# Altium footprint library SMD_MOSFET.PcbLib: 6 footprints
Each footprint in its own frame and in the unit in brackets; x right, y up, seen from the top. Pads: shape width x height; smd on the part's side, far side on the other; paste and mask are expansions set on the pad; w line width, h text height; cw(c..) or ccw(c..) is an arc to the next point about the centre after c.
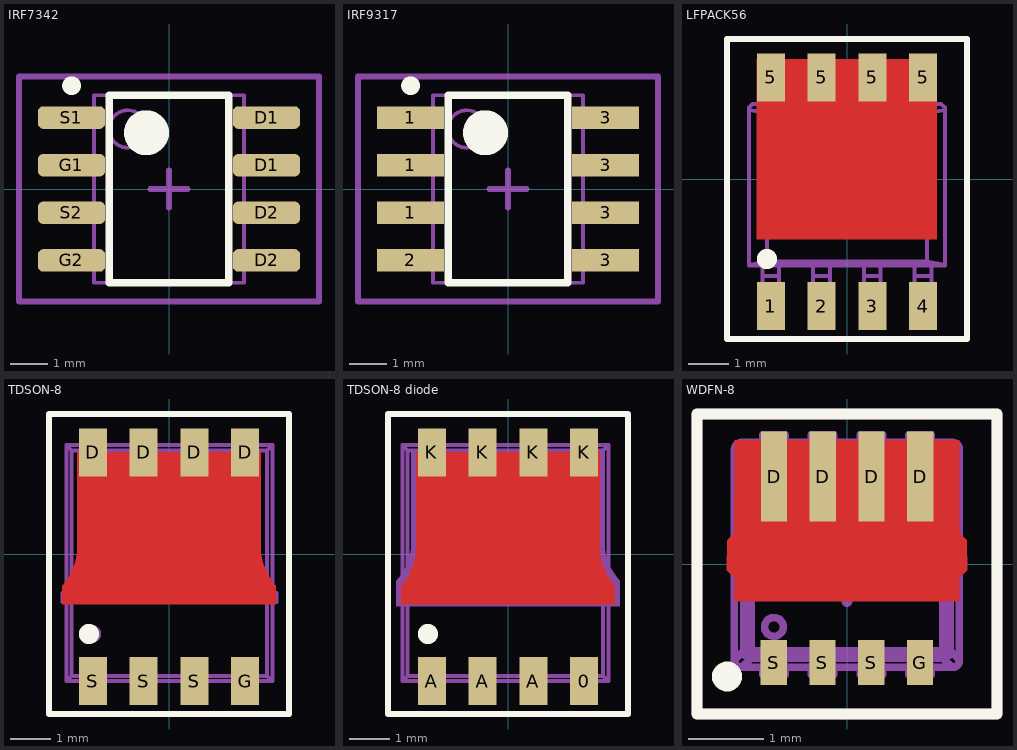
[diagram p0: the footprints below, top view; thin cyan lines are the x and y axes]

## IRF7342 [mm]
pads (8):
  rrect50% 1.8x0.6 smd: D1(2.6,0.635) D1(2.6,1.905) D2(2.6,-1.905) D2(2.6,-0.635) G1(-2.6,0.635) G2(-2.6,-1.905) S1(-2.6,1.905) S2(-2.6,-0.635)
Top Overlay:
  circle w0.25: c-2.6,2.755 r0.125
  circle w0.6: c-0.6,1.5 r0.3
  lines w0.2: -1.6,-2.5 -1.6,2.5 1.6,2.5 1.6,-2.5 -1.6,-2.5
Top Assembly:
  circle w0.1: c-1.1,1.6 r0.5
  region: -2.921,2.159 -2.921,1.651 -2,1.651 -2,2.159
  region: -2.921,0.889 -2.921,0.381 -2,0.381 -2,0.889
  region: -2.921,-0.381 -2.921,-0.889 -2,-0.889 -2,-0.381
  region: -2.921,-1.651 -2.921,-2.159 -2,-2.159 -2,-1.651
  region: 2.032,2.159 2.032,1.651 2.953,1.651 2.953,2.159
  region: 2.032,0.889 2.032,0.381 2.953,0.381 2.953,0.889
  region: 2.032,-0.381 2.032,-0.889 2.953,-0.889 2.953,-0.381
  region: 2.032,-1.651 2.032,-2.159 2.953,-2.159 2.953,-1.651
  lines w0.1: -2,-2.5 -2,2.5 2,2.5 2,-2.5 -2,-2.5
Top Component Outline:
  lines w0.15: -0.5,0 0.5,0 ; 0,-0.5 0,0.5 ; -4,-3 -4,3 4,3 4,-3 -4,-3
3D body "User Library-SOIC8_JEDEC_MS-012AA.step": height 1.75, standoff -0.01, extent -3.099,-2.5 3.1,2.5

## IRF9317 [mm]
pads (8):
  rect 1.8x0.6 smd: 1(-2.6,-0.635) 1(-2.6,0.635) 1(-2.6,1.905) 2(-2.6,-1.905) 3(2.6,-1.905) 3(2.6,-0.635) 3(2.6,0.635) 3(2.6,1.905)
Top Overlay:
  circle w0.6: c-0.6,1.5 r0.3
  circle w0.25: c-2.6,2.755 r0.125
  lines w0.2: -1.6,-2.5 1.6,-2.5 1.6,2.5 -1.6,2.5 -1.6,-2.5
Top Assembly:
  circle w0.1: c-1.1,1.6 r0.5
  region: 2.032,-1.651 2.032,-2.159 2.953,-2.159 2.953,-1.651
  region: 2.032,-0.381 2.032,-0.889 2.953,-0.889 2.953,-0.381
  region: 2.032,0.889 2.032,0.381 2.953,0.381 2.953,0.889
  region: 2.032,2.159 2.032,1.651 2.953,1.651 2.953,2.159
  region: -2.921,-1.651 -2.921,-2.159 -2,-2.159 -2,-1.651
  region: -2.921,-0.381 -2.921,-0.889 -2,-0.889 -2,-0.381
  region: -2.921,0.889 -2.921,0.381 -2,0.381 -2,0.889
  region: -2.921,2.159 -2.921,1.651 -2,1.651 -2,2.159
  lines w0.1: -2,-2.5 2,-2.5 2,2.5 -2,2.5 -2,-2.5
Top Component Outline:
  lines w0.15: -0.5,0 0.5,0 ; 0,-0.5 0,0.5 ; -4,-3 4,-3 4,3 -4,3 -4,-3
3D body "User Library-SOIC8_JEDEC_MS-012AA.step": height 1.75, standoff -0.01, extent -3.099,-2.5 3.1,2.5

## LFPACK56 [mm]
pads (8):
  rect 0.7x1.2 smd: 1(-1.905,-3.175) 2(-0.635,-3.175) 3(0.635,-3.175) 4(1.905,-3.175) 5(-1.905,2.54) 5(-0.635,2.54) 5(0.635,2.54) 5(1.905,2.54)
Top Layer:
  region: -2.25,-1.5 -2.25,3 2.25,3 2.25,-1.5
Top Overlay:
  circle w0.4: c-2,-2 r0.05
  lines w0.15: -3,-4 -3,3.5 3,3.5 3,-4 -3,-4
Top Assembly:
  circle w0.1: c-1.503,-0.208 r0.338
  lines w0.1: -1.403,1.877 -2.36,1.877 -2.453,1.785 -2.453,1.73 ; -0.603,1.877 0.597,1.877 ; 1.397,1.877 2.355,1.877 2.447,1.785 2.447,1.73 ; -2.453,-2.145 -2.006,-2.065 ; -2.453,-2.145 -2.453,1.73 ; -2.453,-2.145 -2.453,-2.158 -2.118,-2.158 ; -2.453,1.73 -2.006,1.65 ; -2.118,-2.839 -2.118,-2.751 ; -2.118,-2.839 -2.118,-3.208 -1.698,-3.208 -1.698,-2.839 ; -2.118,-2.839 -1.698,-2.839 ; -2.118,-2.751 -2.118,-2.714 ; -2.118,-2.751 -1.698,-2.751 ; -2.118,-2.714 -2.118,-2.424 ; -2.118,-2.714 -1.698,-2.714 ; -2.118,-2.424 -2.118,-2.158 ; -2.118,-2.424 -1.698,-2.424 ; -2.118,-2.158 -1.698,-2.158 ; -2.006,-2.065 2.001,-2.065 ; -2.006,-2.065 -2.006,1.65 ; -2.006,1.65 2.001,1.65 ; -1.698,-2.839 -1.698,-2.751 ; -1.698,-2.751 -1.698,-2.714 ; -1.698,-2.714 -1.698,-2.424 ; -1.698,-2.424 -1.698,-2.158 ; -1.698,-2.158 -0.848,-2.158 ; -0.848,-2.839 -0.848,-2.751 ; -0.848,-2.839 -0.848,-3.208 -0.428,-3.208 -0.428,-2.839 ; -0.848,-2.839 -0.428,-2.839 ; -0.848,-2.751 -0.848,-2.714 ; -0.848,-2.751 -0.428,-2.751 ; -0.848,-2.714 -0.848,-2.424 ; -0.848,-2.714 -0.428,-2.714 ; -0.848,-2.424 -0.848,-2.158 ; -0.848,-2.424 -0.428,-2.424 ; -0.848,-2.158 -0.428,-2.158 ; -0.428,-2.839 -0.428,-2.751 ; -0.428,-2.751 -0.428,-2.714 ; -0.428,-2.714 -0.428,-2.424 ; -0.428,-2.424 -0.428,-2.158 ; -0.428,-2.158 0.422,-2.158 ; 0.422,-2.839 0.422,-2.751 ; 0.422,-2.839 0.422,-3.208 0.842,-3.208 0.842,-2.839 ; 0.422,-2.839 0.842,-2.839 ; 0.422,-2.751 0.422,-2.714 ; 0.422,-2.751 0.842,-2.751 ; 0.422,-2.714 0.422,-2.424 ; 0.422,-2.714 0.842,-2.714 ; 0.422,-2.424 0.422,-2.158 ; 0.422,-2.424 0.842,-2.424 ; 0.422,-2.158 0.842,-2.158 ; 0.842,-2.839 0.842,-2.751 ; 0.842,-2.751 0.842,-2.714 ; 0.842,-2.714 0.842,-2.424 ; 0.842,-2.424 0.842,-2.158 ; 0.842,-2.158 1.692,-2.158 ; 1.692,-2.839 1.692,-2.751 ; 1.692,-2.839 1.692,-3.208 2.112,-3.208 2.112,-2.839 ; 1.692,-2.839 2.112,-2.839 ; 1.692,-2.751 1.692,-2.714 ; 1.692,-2.751 2.112,-2.751 ; 1.692,-2.714 1.692,-2.424 ; 1.692,-2.714 2.112,-2.714 ; 1.692,-2.424 1.692,-2.158 ; 1.692,-2.424 2.112,-2.424 ; 1.692,-2.158 2.112,-2.158 ; 2.001,-2.065 2.001,1.65 ; 2.001,-2.065 2.447,-2.145 ; 2.001,1.65 2.447,1.73 ; 2.112,-2.839 2.112,-2.751 ; 2.112,-2.751 2.112,-2.714 ; 2.112,-2.714 2.112,-2.424 ; 2.112,-2.424 2.112,-2.158 ; 2.112,-2.158 2.447,-2.158 2.447,-2.145 ; 2.447,-2.145 2.447,1.73 ; -2.103,2.092 -1.403,2.092 -1.403,1.82 -0.603,1.82 -0.603,1.892 0.597,1.892 0.597,1.82 1.397,1.82 1.397,2.092 2.097,2.092 2.097,2.342 1.647,2.792 -1.653,2.792 -2.103,2.342 -2.103,2.092
Top Component Outline:
  lines w0.15: -0.5,0 0.5,0 ; 0,-0.5 0,0.5 ; -3,-4 3,-4 3,3.5 -3,3.5 -3,-4
3D body "User Library-LFPAK-1.step": height 1.1, standoff 0, extent -2.45,-3.25 2.45,2.75

## TDSON-8 [mm]
pads (8):
  rect 0.7x1.2 smd: D(-1.905,2.54) D(-0.635,2.54) D(0.635,2.54) D(1.905,2.54) G(1.905,-3.175) S(-1.905,-3.175) S(-0.635,-3.175) S(0.635,-3.175)
Top Layer:
  region: -2.669,-1.25 -2.669,-0.792 -2.583,-0.691 -2.443,-0.467 -2.346,-0.221 -2.297,0.038 -2.291,0.171 -2.291,2.549 2.291,2.549 2.291,0.171 2.297,0.038 2.346,-0.221 2.443,-0.467 2.583,-0.691 2.669,-0.792 2.669,-1.25
Top Overlay:
  circle w0.4: c-2,-2 r0.05
  lines w0.15: -3,-4 3,-4 3,3.5 -3,3.5 -3,-4
Top Assembly:
  circle w0.254: c-1.925,-2 r0.1
  lines w0.1: -2.565,-1.205 -2.665,-1.205 -2.665,-0.98 -2.565,-0.98 ; -2.02,-3.18 -2.02,-3.305 -1.77,-3.305 -1.77,-3.18 ; -2.02,2.72 -2.02,2.845 -1.77,2.845 -1.77,2.72 ; -0.75,-3.18 -0.75,-3.305 -0.5,-3.305 -0.5,-3.18 ; -0.75,2.72 -0.75,2.845 -0.5,2.845 -0.5,2.72 ; 0.52,-3.18 0.52,-3.305 0.77,-3.305 0.77,-3.18 ; 0.52,2.72 0.52,2.845 0.77,2.845 0.77,2.72 ; 1.79,-3.18 1.79,-3.305 2.04,-3.305 2.04,-3.18 ; 1.79,2.72 1.79,2.845 2.04,2.845 2.04,2.72 ; 2.585,-1.205 2.685,-1.205 2.685,-0.98 2.585,-0.98 ; -2.565,-3.18 -2.433,-3.048 ; -2.565,-3.18 -2.565,2.72 ; -2.565,-3.18 2.585,-3.18 ; -2.565,2.72 -2.433,2.588 ; -2.565,2.72 2.585,2.72 ; -2.433,-3.048 2.453,-3.048 ; -2.433,-3.048 -2.433,2.588 ; -2.433,2.588 2.453,2.588 ; 2.453,-3.048 2.453,2.588 ; 2.453,-3.048 2.585,-3.18 ; 2.453,2.588 2.585,2.72 ; 2.585,-3.18 2.585,2.72
Top Component Outline:
  lines w0.15: -0.5,0 0.5,0 ; 0,-0.5 0,0.5 ; -3,-4 -3,3.5 3,3.5 3,-4 -3,-4
3D body "User Library-TDSON-8-1.step": height 1, standoff 0, extent -2.675,-3.329 2.675,2.821

## TDSON-8 diode [mm]
pads (8):
  rect 0.7x1.2 smd: 0(1.905,-3.175) A(-1.905,-3.175) A(-0.635,-3.175) A(0.635,-3.175) K(-1.905,2.54) K(-0.635,2.54) K(0.635,2.54) K(1.905,2.54)
Top Layer:
  region: -2.669,-1.25 -2.669,-0.792 -2.583,-0.691 -2.443,-0.467 -2.346,-0.221 -2.297,0.038 -2.291,0.171 -2.291,2.549 2.291,2.549 2.291,0.171 2.297,0.038 2.346,-0.221 2.443,-0.467 2.583,-0.691 2.669,-0.792 2.669,-1.25
Top Overlay:
  circle w0.4: c-2,-2 r0.05
  lines w0.15: -3,-4 3,-4 3,3.5 -3,3.5 -3,-4
Top Assembly:
  circle w0.254: c-2,-2 r0.1
  region: -2.794,-1.3 -2.794,-0.666 -2.708,-0.571 -2.567,-0.359 -2.469,-0.124 -2.419,0.127 -2.413,0.254 -2.413,2.54 2.413,2.54 2.413,0.126 2.434,0.017 2.499,-0.196 2.596,-0.397 2.721,-0.581 2.794,-0.666 2.794,-1.3
  lines w0.1: -2.64,-1.205 -2.74,-1.205 -2.74,-0.98 -2.64,-0.98 ; -2.095,-3.18 -2.095,-3.305 -1.845,-3.305 -1.845,-3.18 ; -2.095,2.72 -2.095,2.845 -1.845,2.845 -1.845,2.72 ; -0.825,-3.18 -0.825,-3.305 -0.575,-3.305 -0.575,-3.18 ; -0.825,2.72 -0.825,2.845 -0.575,2.845 -0.575,2.72 ; 0.445,-3.18 0.445,-3.305 0.695,-3.305 0.695,-3.18 ; 0.445,2.72 0.445,2.845 0.695,2.845 0.695,2.72 ; 1.715,-3.18 1.715,-3.305 1.965,-3.305 1.965,-3.18 ; 1.715,2.72 1.715,2.845 1.965,2.845 1.965,2.72 ; 2.51,-1.205 2.61,-1.205 2.61,-0.98 2.51,-0.98 ; -2.64,-3.18 -2.508,-3.048 ; -2.64,-3.18 -2.64,2.72 ; -2.64,-3.18 2.51,-3.18 ; -2.64,2.72 -2.508,2.588 ; -2.64,2.72 2.51,2.72 ; -2.508,-3.048 2.378,-3.048 ; -2.508,-3.048 -2.508,2.588 ; -2.508,2.588 2.378,2.588 ; 2.378,-3.048 2.378,2.588 ; 2.378,-3.048 2.51,-3.18 ; 2.378,2.588 2.51,2.72 ; 2.51,-3.18 2.51,2.72
Top Component Outline:
  lines w0.15: -0.5,0 0.5,0 ; 0,-0.5 0,0.5 ; -3,-4 -3,3.5 3,3.5 3,-4 -3,-4
3D body "User Library-TDSON-8-1.step": height 1, standoff 0, extent -2.675,-3.329 2.675,2.821

## WDFN-8 [mm]
pads (8):
  rect 0.35x1.2 smd: D(-0.973,1.166) D(-0.323,1.166) D(0.327,1.166) D(0.977,1.166)
  rect 0.35x0.6 smd: G(0.973,-1.316) S(-0.977,-1.316) S(-0.327,-1.316) S(0.323,-1.316)
Top Layer:
  region: -1.5,-0.5 -1.5,-0.186 -1.6,-0.086 -1.6,0.318 -1.5,0.417 -1.5,1.65 1.5,1.65 1.5,0.417 1.6,0.318 1.6,-0.086 1.5,-0.187 1.5,-0.5
Top Overlay:
  circle w0.2: c-1.6,-1.5 r0.1
  lines w0.15: -2,-2 -2,2 2,2 2,-2 -2,-2
Top Assembly:
  drawing of 483 lines, arcs and shapes, not listed
Top Component Outline:
  lines w0.15: -0.5,0 0.5,0 ; 0,-0.5 0,0.5 ; -2,-2 2,-2 2,2 -2,2 -2,-2
3D body "User Library-DFN8_3x3_0_65Pitch.step": height 0.8, standoff 0, extent -1.552,-1.465 1.548,1.735